# Altium footprint library CON 92318-2614.PcbLib: 1 footprints
Each footprint in its own frame and in the unit in brackets; x right, y up, seen from the top. Pads: shape width x height; smd on the part's side, far side on the other; paste and mask are expansions set on the pad; w line width, h text height; cw(c..) or ccw(c..) is an arc to the next point about the centre after c.
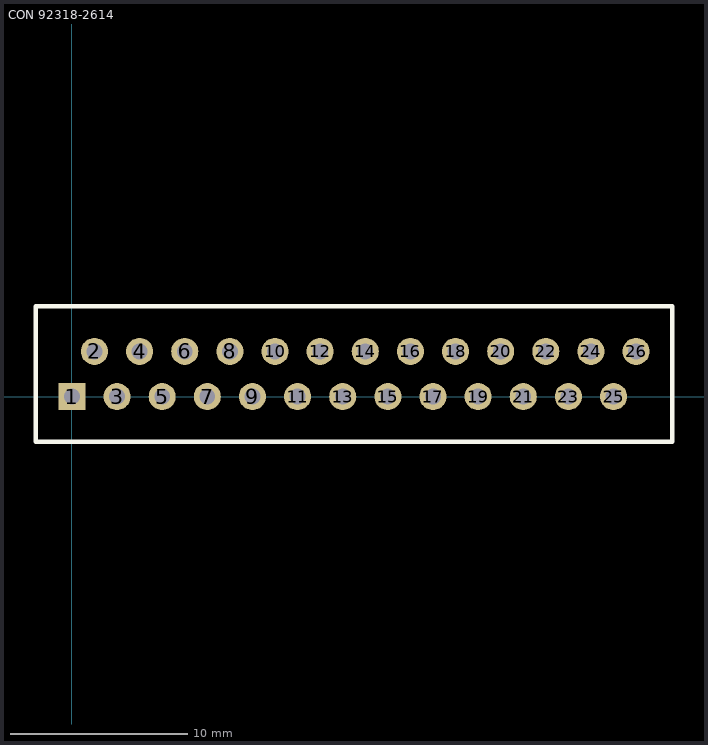
[diagram p0: the footprint, top view; thin cyan lines are the x and y axes]

## CON 92318-2614 [mil]
height 390
pads (26):
  rect 60x60 hole 35: 1(0,0)
  round 60 hole 35: 2(50,100) 3(100,0) 4(150,100) 5(200,0) 6(250,100) 7(300,0) 8(350,100) 9(400,0) 10(450,100) 11(500,0) 12(550,100) 13(600,0) 14(650,100) 15(700,0) 16(750,100) 17(800,0) 18(850,100) 19(900,0) 20(950,100) 21(1000,0) 22(1050,100) 23(1100,0) 24(1150,100) 25(1200,0) 26(1250,100)
TopOverlay:
  lines w10: -80,-100 -80,200 1330,200 1330,-100 -80,-100
Mechanical4:
  text ".340" at 0,0 h1
3D body: height 383.86, standoff -133.86, extent -72.83,-5343.5 1325.98,207.68